# Altium schematic symbol library Bandpass.SchLib: 1 symbol
Pins are listed as number, name and electrical type; pins without a type are passive.

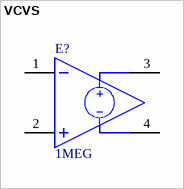
[diagram p0: symbol VCVS]

## VCVS
designator E?, comment 1MEG
Gain: 1MEG
simulation model VCVS (Voltage Controlled Voltage Source)
pins: 1 -IN, 2 +IN, 3 OUT+, 4 OUT-